# Altium schematic symbol library Schlib1.SchLib: 32 symbols
Pins are listed as number, name and electrical type; pins without a type are passive.

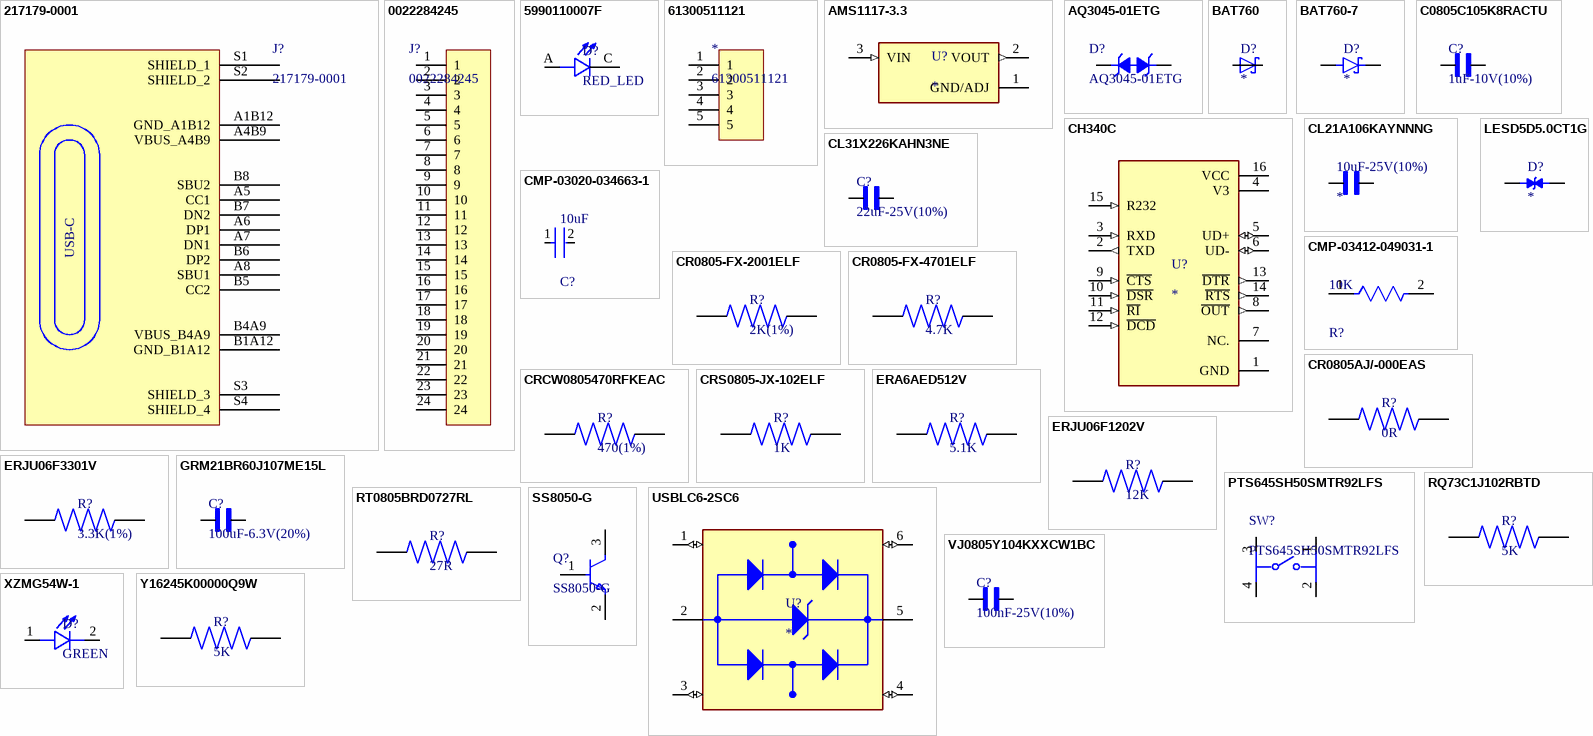
[diagram p0: symbols 217179-0001 to Y16245K00000Q9W]

## 217179-0001
designator J?
CONN RCP USB2.0 TYP C 24P SMD RA; Manufacturer: Molex; Supplier: Digikey; Supplier Part Number: 900-2171790001CT-ND; Manufacturer Part Number: 217179-0001; RoHS: No; Category: Connectors; Stock: 7228; Pricing: 1=0.9, 10=0.745, 100=0.6212 (USD); LCSC Part Number: C3197684
footprint FP-2171790001-MFG
pins: A1B12 GND_A1B12, A4B9 VBUS_A4B9, A5 CC1, A6 DP1, A7 DN1, A8 SBU1, B1A12 GND_B1A12, B4A9 VBUS_B4A9, B5 CC2, B6 DP2, B7 DN2, B8 SBU2, S1 SHIELD_1, S2 SHIELD_2, S3 SHIELD_3, S4 SHIELD_4
text: USB-C

## 0022284245
designator J?
CONN HEADER VERT 24POS 2.54MM; Manufacturer: Molex; Connector Type: BOARD CONNECTOR; Option: General Purpose; Filter Feature: No; Mating Information: MULTIPLE MATING PARTS AVAILABLE; Number of Rows Loaded: 1; Number of Contacts: 24; Supplier: Digikey; Supplier Part Number: 900-0022284245-ND; Manufacturer Part Number: 0022284245; RoHS: Yes; Category: Uncategorized; Stock: 3349; Pricing: 1=1.36, 10=1.123, 100=0.9358, 1000=0.74868, 5000=0.65509, 10000=0.62234 (USD); Mounting Technology: Board; Contact Material: Brass; Contact Finish - Mating: GOLD; Contact Finish - Termination: Tin (Sn); JESD-609 Code: e3; Contact Gender: Male; Mixed Contacts: No; Mounting Style: STRAIGHT; Termination: Solder; Terminal Pitch: 2.54mm; Flammability Rating: UL94 V-0; DIN Conformance: No; IEC Conformance: No; MIL Conformance: No; Reach SVHC Compliant: Yes; RoHS Compliant: Yes; ComponentLink1URL: https://datasheet.ciiva.com:443/pdfs/VipMasterIC/IC/MOLE/MOLE-S-A0006764423/MOLE-S-A0006877704-1.pdf?src-supplier=IHS+Markit; ComponentLink1Description: https://datasheet.ciiva.com:443/pdfs/VipMasterIC/IC/MOLE/MOLE-S-A0006764423/MOLE-S-A0006877704-1.pdf?src-supplier=IHS+Markit; ComponentLink2URL: https://datasheet.ciiva.com/6814/022284363-sd-6814049.pdf?src-supplier=Digikey; ComponentLink2Description: https://datasheet.ciiva.com/6814/022284363-sd-6814049.pdf?src-supplier=Digikey; ComponentLink3URL: https://datasheet.ciiva.com/10075/0022284245-pcb-headers-10075617.pdf?src-supplier=Avnet; ComponentLink3Description: https://datasheet.ciiva.com/10075/0022284245-pcb-headers-10075617.pdf?src-supplier=Avnet; ComponentLink4URL: https://datasheet.ciiva.com/5153/0022284245-pcb-headers-228340-5153875.pdf?src-supplier=Mouser; ComponentLink4Description: https://datasheet.ciiva.com/5153/0022284245-pcb-headers-228340-5153875.pdf?src-supplier=Mouser; ComponentLink5URL: https://datasheet.ciiva.com/1433/1597854-1433759.pdf?src-supplier=Element14; ComponentLink5Description: https://datasheet.ciiva.com/1433/1597854-1433759.pdf?src-supplier=Element14; LCSC Part Number: C7145888
footprint HDR_1X24_2.54MM
pins: 1, 2, 3, 4, 5, 6, 7, 8, 9, 10, 11, 12, 13, 14, 15, 16, 17, 18, 19, 20, 21, 22, 23, 24

## 5990110007F
designator D?, comment RED_LED
Red 633nm LED Indication - Discrete 2.1V 0805 (2012 Metric); MF: Dialight; MP: 599-0110-007F; Check_prices: https://www.snapeda.com/parts/599-0110-007F/Dialight/view-part/?ref=eda; Value: *; Purchase-URL: https://pricing.snapeda.com/search/part/599-0110-007F/?ref=eda; Price: None; SnapEDA_Link: https://www.snapeda.com/parts/599-0110-007F/Dialight/view-part/?ref=snap; Availability: In Stock; Package: 0805 Dialight
footprint LEDSC125X200X90-2N
pins: A, C

## 61300511121
designator *
WR-PHD Straight Male, PCB Header, Through Hole, 1 Rows, 5 Contacts, 2.54mm Pitch; Manufacturer: Wurth Elektronik; Connector Type: Male Pin; Contact Resistance: 20mΩ; Current Rating: 3A; Insulation Resistance: 1GΩ; Number of Contacts: 5; Operating Supply Voltage: 250V; Supplier: DigiKey; Supplier Part Number: 732-5318-ND; Manufacturer Part Number: 61300511121; RoHS: Compliant; Category: Headers and Wire Housings; Stock: 28102; Pricing: 1=0.26, 10=0.222, 25=0.1852, 50=0.155, 100=0.141, 1000=0.13485 (USD); Color: Black; Contact Material: Gold; Contact Mating Length: 5.9944mm; Contact Plating: Gold; Gender: Male; Height: 8.89mm; Lead Free: Lead Free; Lead Pitch: 2.54mm; Length: 12.7mm; Max Operating Temperature: 105°C; Min Operating Temperature: -40°C; Mounting Technology: Through Hole; Pins: 5; Number of Positions: 5; Number of Rows: 1; Orientation: Vertical; Packaging: Bulk; Pitch: 2.54mm; Termination: Solder; Voltage Rating: 250V; ComponentLink1URL: https://datasheet.octopart.com:443/61300511121-W%C3%BCrth-Elektronik-datasheet-44382959.pdf?src-supplier=Future+Electronics; ComponentLink1Description: https://datasheet.octopart.com:443/61300511121-W%C3%BCrth-Elektronik-datasheet-44382959.pdf?src-supplier=Future+Electronics; ComponentLink2URL: https://datasheet.octopart.com:443/61300511121-Wurth-Elektronik-datasheet-190366221.pdf?src-supplier=Wurth+Elektronik; ComponentLink2Description: https://datasheet.octopart.com:443/61300511121-Wurth-Elektronik-datasheet-190366221.pdf?src-supplier=Wurth+Elektronik; ComponentLink3URL: https://datasheet.octopart.com:443/61300511121-W%C3%BCrth-Elektronik-datasheet-149524068.pdf?src-supplier=Farnell; ComponentLink3Description: https://datasheet.octopart.com:443/61300511121-W%C3%BCrth-Elektronik-datasheet-149524068.pdf?src-supplier=Farnell; ComponentLink4URL: https://datasheet.octopart.com:443/61300511121-W%C3%BCrth-Elektronik-datasheet-21154836.pdf?src-supplier=element14+APAC; ComponentLink4Description: https://datasheet.octopart.com:443/61300511121-W%C3%BCrth-Elektronik-datasheet-21154836.pdf?src-supplier=element14+APAC
footprint HDR_1x5_2.54MM
pins: 1, 2, 3, 4, 5

## AMS1117-3.3
designator U?
Sot223/Pkg 1-Amp 3.3-Volt Low Drop Out Voltage Regulatator; MF: Advanced Monolithic Systems; MP: AMS1117-3.3; SnapEDA_Link: https://www.snapeda.com/parts/AMS1117-3.3/Advanced+Monolithic+Systems/view-part/?ref=snap; Package: SOT-223 Seeed Technology; Value: *; Check_prices: https://www.snapeda.com/parts/AMS1117-3.3/Advanced+Monolithic+Systems/view-part/?ref=eda
footprint SOT229P700X180-4N
pins: 1 GND/ADJ (power), 2 VOUT (out), 3 VIN (in)

## AQ3045-01ETG
designator D?
TVS DIODE 5.3VWM 12VC SOD882; Manufacturer: Littelfuse; Diode Element Material: SILICON; Package Body Material: Plastic; Polarity: Bidirectional; Max Breakdown Voltage: 9V; Min Breakdown Voltage: 6.8V; Diode Type: TRANS VOLTAGE SUPPRESSOR; Non-rep Peak Rev Power Dis-Max: 40W; Number of Elements: 1; Rep Pk Reverse Voltage-Max: 5.3V; Reference Standard: AEC-Q101; Supplier: Digikey; Supplier Part Number: F9321CT-ND; Manufacturer Part Number: AQ3045-01ETG; RoHS: Yes; Category: TVS Diodes; Stock: 21664; Pricing: 1=0.5, 10=0.391, 100=0.2344, 500=0.217, 1000=0.14756, 2000=0.13585, 5000=0.1302 (USD); Pins: 2; Package Shape: Rectangular; Min Operating Temperature: -55°C; Max Operating Temperature: 150°C; Package Style: CHIP CARRIERMeter; Surface Mount: Yes; Technology: AVALANCHE; Terminal Form: No Lead; Terminal Position: BOTTOM; Reach SVHC Compliant: Yes; RoHS Compliant: Yes; ComponentLink1URL: https://datasheet.ciiva.com:443/pdfs/VipMasterIC/IC/LFSI/LFSI-S-A0007892042/LFSI-S-A0007892042-1.pdf?src-supplier=IHS+Markit; ComponentLink1Description: https://datasheet.ciiva.com:443/pdfs/VipMasterIC/IC/LFSI/LFSI-S-A0007892042/LFSI-S-A0007892042-1.pdf?src-supplier=IHS+Markit; ComponentLink2URL: https://www.littelfuse.com/~/media/electronics/datasheets/tvs_diode_arrays/littelfuse_tvs_diode_array_aq3045_datasheet.pdf.pdf?src-supplier=Digikey; ComponentLink2Description: https://www.littelfuse.com/~/media/electronics/datasheets/tvs_diode_arrays/littelfuse_tvs_diode_array_aq3045_datasheet.pdf.pdf?src-supplier=Digikey; ComponentLink3URL: http://www.littelfuse.com/~/media/electronics/datasheets/tvs_diode_arrays/littelfuse_tvs_diode_array_aq3045_datasheet.pdf.pdf?src-supplier=Digikey; ComponentLink3Description: http://www.littelfuse.com/~/media/electronics/datasheets/tvs_diode_arrays/littelfuse_tvs_diode_array_aq3045_datasheet.pdf.pdf?src-supplier=Digikey; LCSC Part Number: C3710326
footprint SOD882
pins: 1, 2

## BAT760
designator D?
Diode Schottky 20 V 1A (DC) Surface Mount SOD-323; MF: Nexperia USA; MP: BAT760; SnapEDA_Link: https://www.snapeda.com/parts/BAT760/Nexperia/view-part/?ref=snap; Package: SOD-323 Vishay Semiconductor Diodes Division; Value: *; Check_prices: https://www.snapeda.com/parts/BAT760/Nexperia/view-part/?ref=eda
footprint SOD323(F)
pins: 1 K, 2 A

## BAT760-7
designator D?
Diode Schottky 30V 1A 2Pin SOD323 | Diodes Inc BAT760-7; MF: Diodes Inc.; SnapEDA_Link: https://www.snapeda.com/parts/BAT760-7/Diodes+Inc./view-part/?ref=snap; Package: SOD-323 Diodes Inc.; Value: *; MP: BAT760-7; Check_prices: https://www.snapeda.com/parts/BAT760-7/Diodes+Inc./view-part/?ref=eda
footprint SOD2513X120N
pins: A, C K

## C0805C105K8RACTU
designator C?, comment 1uF-10V(10%)
MP: C0603C105K8RACTU; Package: None; Price: None; Value: *; Availability: Unavailable
footprint CAPC2012X145N - duplicate
pins: 1, 2

## CH340C
designator U?
USB to serial chip CH340; MP: CH340C; MF: WCH; Price: None; Availability: Not in stock; Package: None; SnapEDA_Link: https://www.snapeda.com/parts/CH340C/WCH/view-part/?ref=snap; Check_prices: https://www.snapeda.com/parts/CH340C/WCH/view-part/?ref=eda; Value: *
footprint SOIC127P600X180-16N
pins: 1 GND (power), 2 TXD (out), 3 RXD (in), 4 V3 (power), 5 UD+ (io), 6 UD- (io), 7 NC., 8 ~{OUT} (out), 9 ~{CTS} (in), 10 ~{DSR} (in), 11 ~{RI} (in), 12 ~{DCD} (in), 13 ~{DTR} (out), 14 ~{RTS} (out), 15 R232 (in), 16 VCC (power)

## CL21A106KAYNNNG
designator 10uF-25V(10%)
10 ÂµF Â±10% 25V Ceramic Capacitor X5R 0805 (2012 Metric); MF: Samsung; MP: CL21A106KAYNNNG; SnapEDA_Link: https://www.snapeda.com/parts/CL21A106KAYNNNG/Samsung/view-part/?ref=snap; Package: SMD-2 Samsung; Value: *; Check_prices: https://www.snapeda.com/parts/CL21A106KAYNNNG/Samsung/view-part/?ref=eda
footprint CAPC2012X145N - duplicate
pins: 1, 2

## CL31X226KAHN3NE
designator C?, comment 22uF-25V(10%)
22 ÂµF Â±10% 25V Ceramic Capacitor X6S 1206 (3216 Metric); MF: Samsung; MP: CL31X226KAHN3NE; SnapEDA_Link: https://www.snapeda.com/parts/CL31X226KAHN3NE/Samsung/view-part/?ref=snap; Package: SMD-2 Samsung; Value: *; Check_prices: https://www.snapeda.com/parts/CL31X226KAHN3NE/Samsung/view-part/?ref=eda
footprint CAPC2012X145N - duplicate
pins: 1, 2

## CMP-03020-034663-1
designator C?, comment 10uF
CAP CER 10UF 25V X5R 0805; Dissipation Factor: 10%; Dielectric Material: Ceramic; RoHS Compliant: Yes; Voltage Rating: 25V; Case Code (Metric): 2012; Case Code (Imperial): 0805; Capacitance: 10uF; Lead Free: Lead Free; Dielectric: X5R; Depth: 1.25mm; Case/Package: 0805; Height: 1.25mm; Length: 0.079inch; Termination: Solder; Thickness: 0.057inch; Tolerance: 10%; Min Operating Temperature: -55°C; Width: 0.049inch; Mount: Surface Mount; Voltage Rating (DC): 25V; REACH SVHC: No SVHC; Voltage: 25V; Packaging: Cut Tape; Max Operating Temperature: 85°C
footprint CAPC2012X145N - duplicate
pins: 1, 2

## CMP-03412-049031-1
designator R?, comment 10K
Thin Film Chip Resistors Automotive Grade 10kΩ 0.5% 50ppm/°C 0805; Max Power Dissipation: 125mW; Resistance: 10kR; Ratings: AEC-Q200; Length: 0.079inch; Temperature Coefficient: 50ppm/°C; Height: 0.024inch; Min Operating Temperature: -55°C; Case/Package: 0805; Tolerance: 0.5%; RoHS Compliant: Yes; Features: Moisture Resistant; Number of Terminations: 2; Max Operating Temperature: 155°C; Series: AT; Packaging: Tape and Reel; Width: 0.049inch; Resistor Type: Thin Film
footprint RES_ERA6AED512V
pins: 1, 2

## CR0805-FX-2001ELF
designator R?, comment 2K(1%)
Res 0805 2k 1% 125mW | Bourns CR0805-FX-2001ELF; SnapEDA_Link: https://www.snapeda.com/parts/CR0805-FX-2001ELF/Bourns/view-part/?ref=snap; Package: 0805 Bourns; Value: *; MF: Bourns; MP: CR0805-FX-2001ELF; Check_prices: https://www.snapeda.com/parts/CR0805-FX-2001ELF/Bourns/view-part/?ref=eda
footprint RES_ERA6AED512V
pins: 1, 2

## CR0805-FX-4701ELF
designator R?, comment 4.7K
Res Thick Film 0805 4.7K Ohm 1% 0.125W(1/8W) ?100ppm/C Molded SMD T/R <a href="https://pricing.snapeda.com/parts/CR0805-FX-4701ELF/Bourns/view-part?ref=eda">Check availability</a> <a href="https://pricing.snapeda.com/parts/CR0805-FX-4701ELF/Bourns/view-part?ref=eda">Check availability</a>; MF: {'manufacturer': u'Bourns Inc.'}; Package: None; Price: None; Value: *; MP: CR0805-FX-4701ELF; Availability: Unavailable
footprint RES_ERA6AED512V
pins: 1, 2

## CR0805AJ/-000EAS
designator R?, comment 0R
Resistor, AS 0805 0R Jumper 125mW, AEC-Q, Anti-Sulfur | Bourns CR0805AJ/-000EAS; SnapEDA_Link: https://www.snapeda.com/parts/CR0805AJ/-000EAS/Bourns/view-part/?ref=snap; Package: 0805 Bourns; Value: *; MF: Bourns; MP: CR0805AJ/-000EAS; Check_prices: https://www.snapeda.com/parts/CR0805AJ/-000EAS/Bourns/view-part/?ref=eda
footprint RES_ERA6AED512V
pins: 1, 2

## CRCW0805470RFKEAC
designator R?, comment 470(1%)
470 Ohms Â±1% 0.125W, 1/8W Chip Resistor 0805 (2012 Metric) - Thick Film; MF: Vishay; MP: CRCW0805470RFKEAC; SnapEDA_Link: https://www.snapeda.com/parts/CRCW0805470RFKEAC/Vishay/view-part/?ref=snap; Package: 2012 Vishay; Value: *; Check_prices: https://www.snapeda.com/parts/CRCW0805470RFKEAC/Vishay/view-part/?ref=eda
footprint RES_ERA6AED512V
pins: 1, 2

## CRS0805-JX-102ELF
designator R?, comment 1K
1 kOhms Â±5% 0.25W, 1/4W Chip Resistor 0805 (2012 Metric) High Voltage, Pulse Withstanding Thick Film; MP: CRS0805-JX-102ELF; MF: Bourns; SnapEDA_Link: https://www.snapeda.com/parts/CRS0805-JX-102ELF/Bourns/view-part/?ref=snap; Availability: In Stock; Package: 2012 Stackpole; Check_prices: https://www.snapeda.com/parts/CRS0805-JX-102ELF/Bourns/view-part/?ref=eda; Value: *; Purchase-URL: https://pricing.snapeda.com/search/part/CRS0805-JX-102ELF/?ref=eda; Price: None
footprint RES_ERA6AED512V
pins: 1, 2

## ERA6AED512V
designator R?, comment 5.1K
Res Thin Film 0805 5.1K Ohm 0.5% 0.125W(1/8W) Â±25ppm/Â°C Pad SMD Automotive T/R; MP: ERA6AED512V; MF: Panasonic; Check_prices: https://www.snapeda.com/parts/ERA6AED512V/Panasonic/view-part/5775663/?ref=eda; Package: 2012-2 Panasonic; SnapEDA_Link: https://www.snapeda.com/parts/ERA6AED512V/Panasonic/view-part/5775663/?ref=snap; Digi-Key_Part_Number: P123856CT-ND; Value: *
footprint RES_ERA6AED512V
pins: 1, 2

## ERJU06F1202V
designator R?, comment 12K
Res Thkflm Anti-Sulfur 0805 12k Ohm 1%, Ag Pd Based Smd; MF: Panasonic; MP: ERJ-U06F1202V; SnapEDA_Link: https://www.snapeda.com/parts/ERJ-U06F1202V/Panasonic/view-part/?ref=snap; Package: 2012-2 Panasonic; Value: *; Check_prices: https://www.snapeda.com/parts/ERJ-U06F1202V/Panasonic/view-part/?ref=eda
footprint RES_ERA6AED512V
pins: 1, 2

## ERJU06F3301V
designator R?, comment 3.3K(1%)
MP: ERJU06F3301V; Package: None; Price: None; Value: *; Availability: Unavailable
footprint RES_ERA6AED512V
pins: 1, 2

## GRM21BR60J107ME15L
designator C?, comment 100uF-6.3V(20%)
100 ÂµF Â±20% 6.3V Ceramic Capacitor X5R 0805 (2012 Metric); MF: Murata; MP: GRM21BR60J107ME15L; SnapEDA_Link: https://www.snapeda.com/parts/GRM21BR60J107ME15L/Murata/view-part/?ref=snap; Package: 2012 Murata; Value: *; Check_prices: https://www.snapeda.com/parts/GRM21BR60J107ME15L/Murata/view-part/?ref=eda
footprint CAPC2012X145N - duplicate
pins: 1, 2

## LESD5D5.0CT1G
designator D?
Transient Voltage Suppressors for ESD Protection; MF: Leshan Radio Co.; MP: LESD5D5.0CT1G; Check_prices: https://www.snapeda.com/parts/LESD5D5.0CT1G/Leshan+Radio+Co./view-part/?ref=eda; Value: *; Availability: Not in stock; Package: None; SnapEDA_Link: https://www.snapeda.com/parts/LESD5D5.0CT1G/Leshan+Radio+Co./view-part/?ref=snap; Price: None
footprint TVS_LESD5D5.0CT1G
pins: 1, 2

## PTS645SH50SMTR92LFS
designator SW?
SWITCH TACTILE SPST-NO 0.05A 12V; Manufacturer: ITT C&K; Manufacturer Series: PTS645; Actuator Type: Pushbutton; Contact Current(DC)-Max: 50mA; Contact DC Max Rating R Load: 0.05A@12VDC; Contact Resistance: 0.1mR; Dielectric Withstand Volts: 250VACV; Electrical Life: 100000Cycles; Insulation Resistance: 100GR; PCB Hole Count: 4; Switch Action: MOMENTARY; Switch Function: SPST; Switch Type: Keypad; Body Breadth: 5.9944inch; Body Height: 3.4544mm; Body Length or Diameter: 5.9944mm; Supplier: Digikey; Supplier Part Number: CKN9085CT-ND; Manufacturer Part Number: PTS645SH50SMTR92LFS; RoHS: Yes; Category: Tactile Switches; Stock: 64637; Pricing: 1=0.35, 10=0.337, 25=0.3172, 100=0.2753, 250=0.24972, 500=0.2323 (USD); Mounting Technology: Surface Mount; Terminal Finish: Silver; Min Operating Temperature: -20°C; Max Operating Temperature: 60°C; JESD-609 Code: e4; Contact Voltage(DC)-Max: 12V; Termination: Solder; Terminal Length: 0.138inch; Reach SVHC Compliant: Yes; RoHS Compliant: Yes; ComponentLink1URL: https://datasheet.ciiva.com:443/pdfs/VipMasterIC/IC/CKCI/CKCI-S-A0001796527/CKCI-S-A0001796842-1.pdf?src-supplier=IHS+Markit; ComponentLink1Description: https://datasheet.ciiva.com:443/pdfs/VipMasterIC/IC/CKCI/CKCI-S-A0001796527/CKCI-S-A0001796842-1.pdf?src-supplier=IHS+Markit; ComponentLink2URL: https://datasheet.ciiva.com/29903/getdatasheetpartid-773702-29903807.pdf?src-supplier=Verical; ComponentLink2Description: https://datasheet.ciiva.com/29903/getdatasheetpartid-773702-29903807.pdf?src-supplier=Verical; ComponentLink3URL: https://datasheet.ciiva.com/14920/pts645-14920741.pdf?src-supplier=Digikey; ComponentLink3Description: https://datasheet.ciiva.com/14920/pts645-14920741.pdf?src-supplier=Digikey; ComponentLink4URL: https://datasheet.ciiva.com/22637/1707731-22637356.pdf?src-supplier=Element14; ComponentLink4Description: https://datasheet.ciiva.com/22637/1707731-22637356.pdf?src-supplier=Element14; LCSC Part Number: C221869
footprint FP-PTS645SH50SMTR92LFS-MFG
pins: 1, 2, 3, 4

## RQ73C1J102RBTD
designator R?, comment 5K
Fixed Resistor RQ 0603 102R 0.1% 10PPM 5K RL; MF: TE Connectivity; MP: RQ73C1J102RBTD; SnapEDA_Link: https://www.snapeda.com/parts/RQ73C1J102RBTD/TE+Connectivity/view-part/?ref=snap; Package: 1508 TE Connectivity; Value: *; Check_prices: https://www.snapeda.com/parts/RQ73C1J102RBTD/TE+Connectivity/view-part/?ref=eda
footprint RES_ERA6AED512V
pins: 1, 2

## RT0805BRD0727RL
designator R?, comment 27R
27 Ohms Â±0.1% 0.125W, 1/8W Chip Resistor 0805 (2012 Metric) Thin Film; MF: Yageo; MP: RT0805BRD0727RL; SnapEDA_Link: https://www.snapeda.com/parts/RT0805BRD0727RL/Yageo/view-part/?ref=snap; Package: 2012 Yageo; Value: *; Check_prices: https://www.snapeda.com/parts/RT0805BRD0727RL/Yageo/view-part/?ref=eda
footprint RES_ERA6AED512V
pins: 1, 2

## SS8050-G
designator Q?
TRANS NPN 25V 1.5A SOT23-3; Manufacturer: Comchip; Supplier: Digikey; Supplier Part Number: 641-1790-1-ND; Manufacturer Part Number: SS8050-G; RoHS: Yes; Category: Transistors; Stock: 108568; Pricing: 1=0.29, 10=0.2, 100=0.0978, 500=0.08154, 1000=0.05666 (USD); Reach SVHC Compliant: Yes; RoHS Compliant: Yes; ComponentLink1URL: https://datasheet.ciiva.com:443/pdfs/VipMasterIC/IC/COMC/COMC-S-A0004994192/COMC-S-A0004994192-1.pdf?src-supplier=IHS+Markit; ComponentLink1Description: https://datasheet.ciiva.com:443/pdfs/VipMasterIC/IC/COMC/COMC-S-A0004994192/COMC-S-A0004994192-1.pdf?src-supplier=IHS+Markit; ComponentLink2URL: http://www.comchiptech.com/admin/files/product/SS8050-G RevA181526.pdf?src-supplier=Digikey; ComponentLink2Description: http://www.comchiptech.com/admin/files/product/SS8050-G RevA181526.pdf?src-supplier=Digikey; LCSC Part Number: C164886
footprint FP-SS8050-G-IPC_B
pins: 1 B, 2 E, 3 C

## USBLC6-2SC6
designator U?
17V Clamp 5A (8/20Âµs) Ipp Tvs Diode Surface Mount SOT-23-6; MF: STMicroelectronics; MP: USBLC6-2SC6; Value: *; SnapEDA_Link: https://www.snapeda.com/parts/USBLC6-2SC6/STMicroelectronics/view-part/?ref=snap; Check_prices: https://www.snapeda.com/parts/USBLC6-2SC6/STMicroelectronics/view-part/?ref=eda; Purchase-URL: https://pricing.snapeda.com/search/part/USBLC6-2SC6/?ref=eda; Price: None; Availability: In Stock; Package: SOT-23-6 STMicroelectronics
footprint SOT95P280X145-6N
pins: 1 I/O1_IN (io), 2 GND (power), 3 I/O2_IN (io), 4 I/O2_OUT (io), 5 VBUS (power), 6 I/O1_OUT (io)

## VJ0805Y104KXXCW1BC
designator C?, comment 100nF-25V(10%)
Capacitor: ceramic; MLCC; 100nF; 25V; X7R; Â±10%; SMD; 0805; MF: Vishay Vitramon; MP: VJ0805Y104KXXCW1BC; SnapEDA_Link: https://www.snapeda.com/parts/VJ0805Y104KXXCW1BC/Vishay/view-part/?ref=snap; Package: 0805-2 VISHAY; Value: *; Check_prices: https://www.snapeda.com/parts/VJ0805Y104KXXCW1BC/Vishay/view-part/?ref=eda
footprint CAPC2012X145N - duplicate
pins: 1, 2

## XZMG54W-1
designator D?, comment GREEN
Green 568nm LED Indication - Discrete 2.2V 0805 (2012 Metric); MF: SunLED; MP: XZMG54W-1; SnapEDA_Link: https://www.snapeda.com/parts/XZMG54W-1/SunLED/view-part/?ref=snap; Purchase-URL: https://pricing.snapeda.com/search/part/XZMG54W-1/?ref=eda; Price: None; Availability: In Stock; Package: None; Check_prices: https://www.snapeda.com/parts/XZMG54W-1/SunLED/view-part/?ref=eda; Value: *
footprint LED_XZMG54W-1
pins: 1 A, 2 C

## Y16245K00000Q9W
designator R?, comment 5K
RES SMD 5K OHM 0.02% 1/5W 0805; MF: Vishay; MP: Y16245K00000Q9W; SnapEDA_Link: https://www.snapeda.com/parts/Y16245K00000Q9W/Vishay/view-part/?ref=snap; Package: 2012 Vishay; Value: *; Check_prices: https://www.snapeda.com/parts/Y16245K00000Q9W/Vishay/view-part/?ref=eda
footprint RES_ERA6AED512V
pins: 1, 2